# EAGLE library part EP3C25 (library Jim)
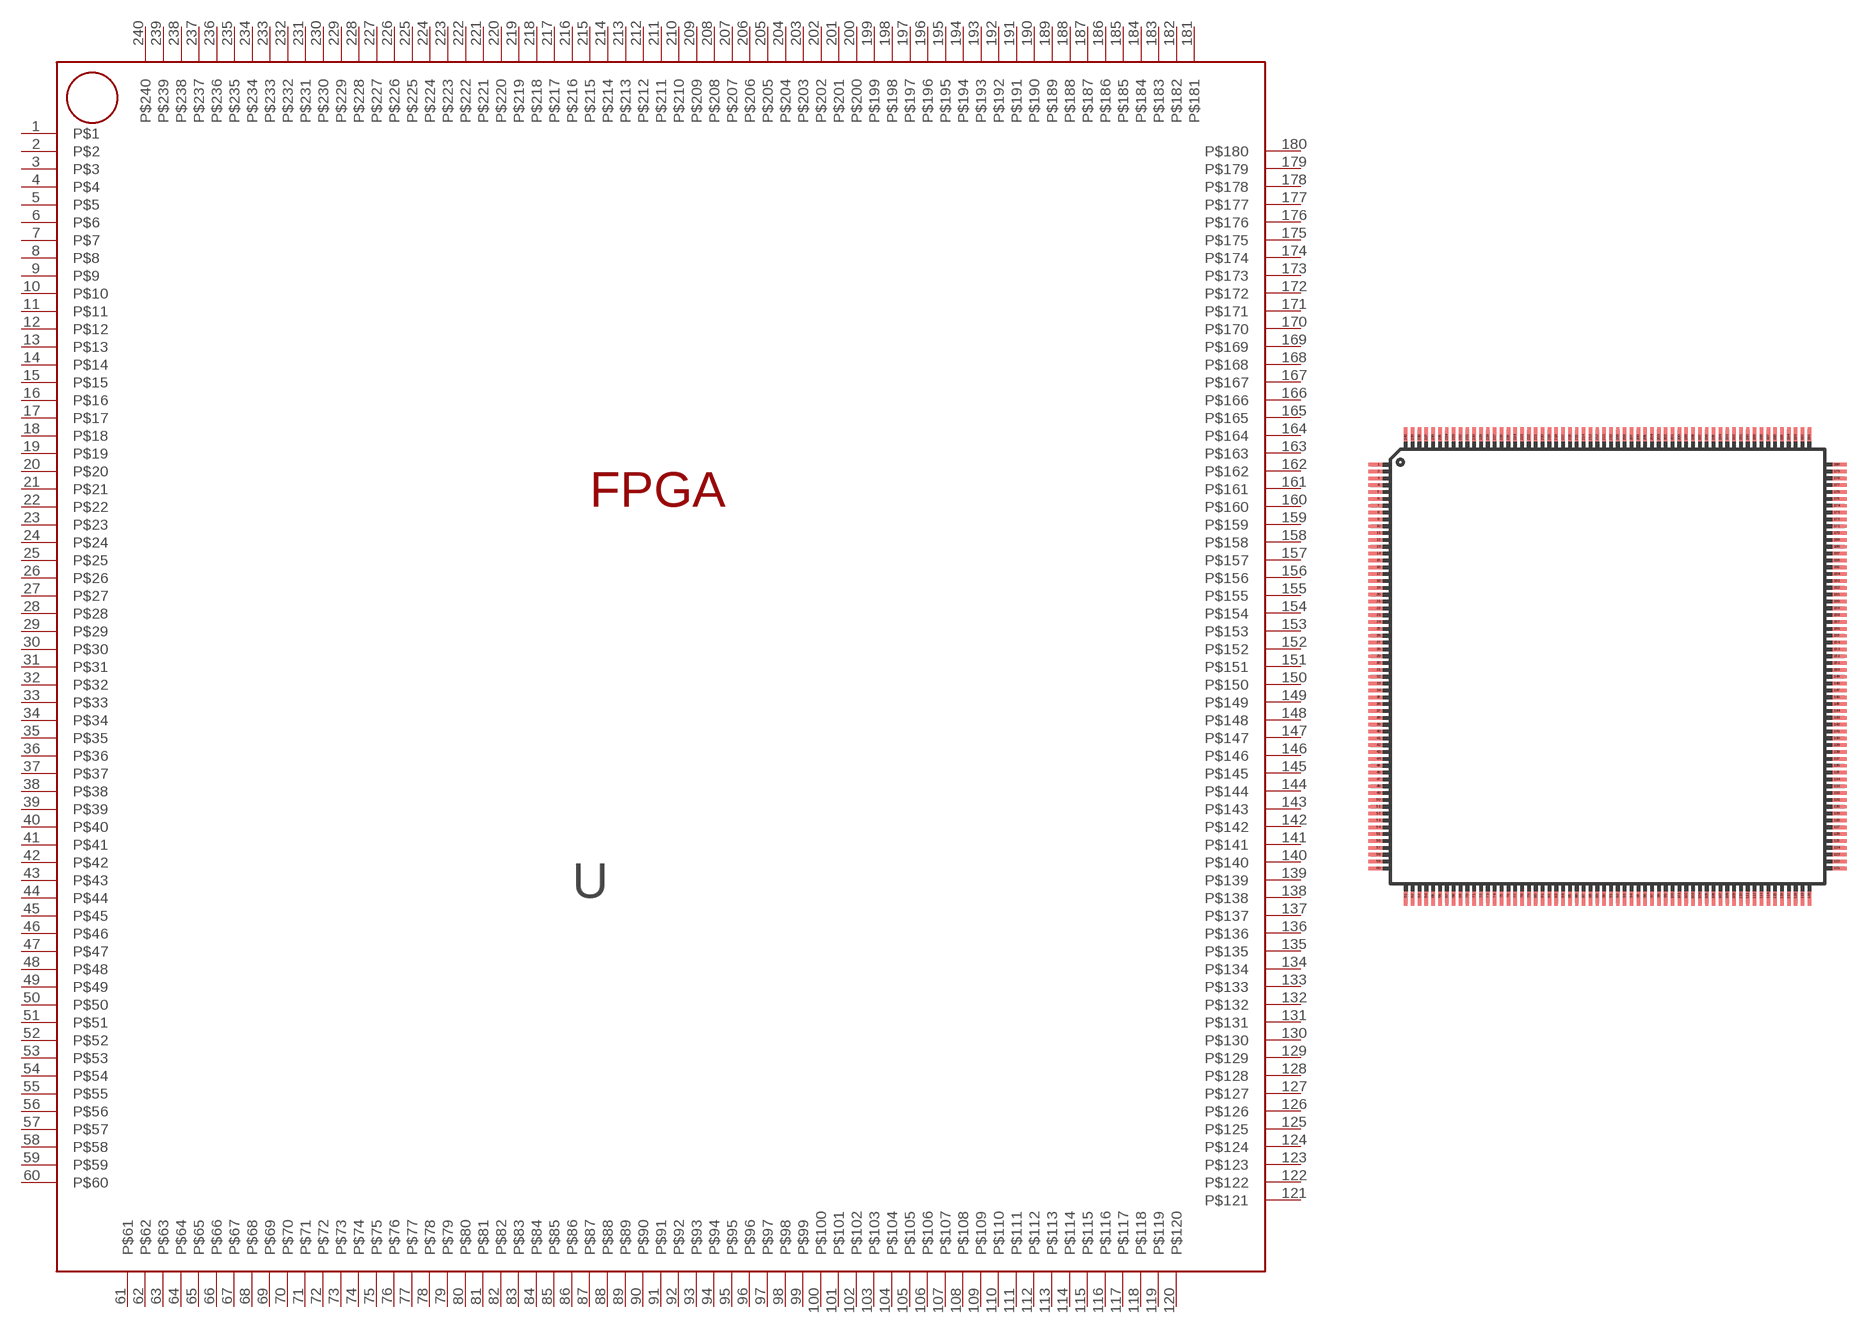
[diagram p30: symbol with the pads of PQFP240; footprint PQFP240]

Designator prefix -

## EP3C25  [PQFP240]
1  P$1
2  P$2
3  P$3
4  P$4
5  P$5
6  P$6
7  P$7
8  P$8
9  P$9
10  P$10
11  P$11
12  P$12
13  P$13
14  P$14
15  P$15
16  P$16
17  P$17
18  P$18
19  P$19
20  P$20
21  P$21
22  P$22
23  P$23
24  P$24
25  P$25
26  P$26
27  P$27
28  P$28
29  P$29
30  P$30
31  P$31
32  P$32
33  P$33
34  P$34
35  P$35
36  P$36
37  P$37
38  P$38
39  P$39
40  P$40
41  P$41
42  P$42
43  P$43
44  P$44
45  P$45
46  P$46
47  P$47
48  P$48
49  P$49
50  P$50
51  P$51
52  P$52
53  P$53
54  P$54
55  P$55
56  P$56
57  P$57
58  P$58
59  P$59
60  P$60
61  P$61
62  P$62
63  P$63
64  P$64
65  P$65
66  P$66
67  P$67
68  P$68
69  P$69
70  P$70
71  P$71
72  P$72
73  P$73
74  P$74
75  P$75
76  P$76
77  P$77
78  P$78
79  P$79
80  P$80
81  P$81
82  P$82
83  P$83
84  P$84
85  P$85
86  P$86
87  P$87
88  P$88
89  P$89
90  P$90
91  P$91
92  P$92
93  P$93
94  P$94
95  P$95
96  P$96
97  P$97
98  P$98
99  P$99
100  P$100
101  P$101
102  P$102
103  P$103
104  P$104
105  P$105
106  P$106
107  P$107
108  P$108
109  P$109
110  P$110
111  P$111
112  P$112
113  P$113
114  P$114
115  P$115
116  P$116
117  P$117
118  P$118
119  P$119
120  P$120
121  P$121
122  P$122
123  P$123
124  P$124
125  P$125
126  P$126
127  P$127
128  P$128
129  P$129
130  P$130
131  P$131
132  P$132
133  P$133
134  P$134
135  P$135
136  P$136
137  P$137
138  P$138
139  P$139
140  P$140
141  P$141
142  P$142
143  P$143
144  P$144
145  P$145
146  P$146
147  P$147
148  P$148
149  P$149
150  P$150
151  P$151
152  P$152
153  P$153
154  P$154
155  P$155
156  P$156
157  P$157
158  P$158
159  P$159
160  P$160
161  P$161
162  P$162
163  P$163
164  P$164
165  P$165
166  P$166
167  P$167
168  P$168
169  P$169
170  P$170
171  P$171
172  P$172
173  P$173
174  P$174
175  P$175
176  P$176
177  P$177
178  P$178
179  P$179
180  P$180
181  P$181
182  P$182
183  P$183
184  P$184
185  P$185
186  P$186
187  P$187
188  P$188
189  P$189
190  P$190
191  P$191
192  P$192
193  P$193
194  P$194
195  P$195
196  P$196
197  P$197
198  P$198
199  P$199
200  P$200
201  P$201
202  P$202
203  P$203
204  P$204
205  P$205
206  P$206
207  P$207
208  P$208
209  P$209
210  P$210
211  P$211
212  P$212
213  P$213
214  P$214
215  P$215
216  P$216
217  P$217
218  P$218
219  P$219
220  P$220
221  P$221
222  P$222
223  P$223
224  P$224
225  P$225
226  P$226
227  P$227
228  P$228
229  P$229
230  P$230
231  P$231
232  P$232
233  P$233
234  P$234
235  P$235
236  P$236
237  P$237
238  P$238
239  P$239
240  P$240

## Footprint PQFP240 (pad centres in mm)
PLASTIC QUAD FLAT PACK
smd 1.5 x 0.25: 1 -16.75,14.75; 2 -16.75,14.25; 3 -16.75,13.75; 4 -16.75,13.25; 5 -16.75,12.75; 6 -16.75,12.25; 7 -16.75,11.75; 8 -16.75,11.25; 9 -16.75,10.75; 10 -16.75,10.25; 11 -16.75,9.75; 12 -16.75,9.25; 13 -16.75,8.75; 14 -16.75,8.25; 15 -16.75,7.75; 16 -16.75,7.25; 17 -16.75,6.75; 18 -16.75,6.25; 19 -16.75,5.75; 20 -16.75,5.25; 21 -16.75,4.75; 22 -16.75,4.25; 23 -16.75,3.75; 24 -16.75,3.25; 25 -16.75,2.75; 26 -16.75,2.25; 27 -16.75,1.75; 28 -16.75,1.25; 29 -16.75,0.75; 30 -16.75,0.25; 31 -16.75,-0.25; 32 -16.75,-0.75; 33 -16.75,-1.25; 34 -16.75,-1.75; 35 -16.75,-2.25; 36 -16.75,-2.75; 37 -16.75,-3.25; 38 -16.75,-3.75; 39 -16.75,-4.25; 40 -16.75,-4.75; 41 -16.75,-5.25; 42 -16.75,-5.75; 43 -16.75,-6.25; 44 -16.75,-6.75; 45 -16.75,-7.25; 46 -16.75,-7.75; 47 -16.75,-8.25; 48 -16.75,-8.75; 49 -16.75,-9.25; 50 -16.75,-9.75; 51 -16.75,-10.25; 52 -16.75,-10.75; 53 -16.75,-11.25; 54 -16.75,-11.75; 55 -16.75,-12.25; 56 -16.75,-12.75; 57 -16.75,-13.25; 58 -16.75,-13.75; 59 -16.75,-14.25; 60 -16.75,-14.75; 121 16.75,-14.75; 122 16.75,-14.25; 123 16.75,-13.75; 124 16.75,-13.25; 125 16.75,-12.75; 126 16.75,-12.25; 127 16.75,-11.75; 128 16.75,-11.25; 129 16.75,-10.75; 130 16.75,-10.25; 131 16.75,-9.75; 132 16.75,-9.25; 133 16.75,-8.75; 134 16.75,-8.25; 135 16.75,-7.75; 136 16.75,-7.25; 137 16.75,-6.75; 138 16.75,-6.25; 139 16.75,-5.75; 140 16.75,-5.25; 141 16.75,-4.75; 142 16.75,-4.25; 143 16.75,-3.75; 144 16.75,-3.25; 145 16.75,-2.75; 146 16.75,-2.25; 147 16.75,-1.75; 148 16.75,-1.25; 149 16.75,-0.75; 150 16.75,-0.25; 151 16.75,0.25; 152 16.75,0.75; 153 16.75,1.25; 154 16.75,1.75; 155 16.75,2.25; 156 16.75,2.75; 157 16.75,3.25; 158 16.75,3.75; 159 16.75,4.25; 160 16.75,4.75; 161 16.75,5.25; 162 16.75,5.75; 163 16.75,6.25; 164 16.75,6.75; 165 16.75,7.25; 166 16.75,7.75; 167 16.75,8.25; 168 16.75,8.75; 169 16.75,9.25; 170 16.75,9.75; 171 16.75,10.25; 172 16.75,10.75; 173 16.75,11.25; 174 16.75,11.75; 175 16.75,12.25; 176 16.75,12.75; 177 16.75,13.25; 178 16.75,13.75; 179 16.75,14.25; 180 16.75,14.75
smd 0.25 x 1.5: 61 -14.75,-16.75; 62 -14.25,-16.75; 63 -13.75,-16.75; 64 -13.25,-16.75; 65 -12.75,-16.75; 66 -12.25,-16.75; 67 -11.75,-16.75; 68 -11.25,-16.75; 69 -10.75,-16.75; 70 -10.25,-16.75; 71 -9.75,-16.75; 72 -9.25,-16.75; 73 -8.75,-16.75; 74 -8.25,-16.75; 75 -7.75,-16.75; 76 -7.25,-16.75; 77 -6.75,-16.75; 78 -6.25,-16.75; 79 -5.75,-16.75; 80 -5.25,-16.75; 81 -4.75,-16.75; 82 -4.25,-16.75; 83 -3.75,-16.75; 84 -3.25,-16.75; 85 -2.75,-16.75; 86 -2.25,-16.75; 87 -1.75,-16.75; 88 -1.25,-16.75; 89 -0.75,-16.75; 90 -0.25,-16.75; 91 0.25,-16.75; 92 0.75,-16.75; 93 1.25,-16.75; 94 1.75,-16.75; 95 2.25,-16.75; 96 2.75,-16.75; 97 3.25,-16.75; 98 3.75,-16.75; 99 4.25,-16.75; 100 4.75,-16.75; 101 5.25,-16.75; 102 5.75,-16.75; 103 6.25,-16.75; 104 6.75,-16.75; 105 7.25,-16.75; 106 7.75,-16.75; 107 8.25,-16.75; 108 8.75,-16.75; 109 9.25,-16.75; 110 9.75,-16.75; 111 10.25,-16.75; 112 10.75,-16.75; 113 11.25,-16.75; 114 11.75,-16.75; 115 12.25,-16.75; 116 12.75,-16.75; 117 13.25,-16.75; 118 13.75,-16.75; 119 14.25,-16.75; 120 14.75,-16.75; 181 14.75,16.75; 182 14.25,16.75; 183 13.75,16.75; 184 13.25,16.75; 185 12.75,16.75; 186 12.25,16.75; 187 11.75,16.75; 188 11.25,16.75; 189 10.75,16.75; 190 10.25,16.75; 191 9.75,16.75; 192 9.25,16.75; 193 8.75,16.75; 194 8.25,16.75; 195 7.75,16.75; 196 7.25,16.75; 197 6.75,16.75; 198 6.25,16.75; 199 5.75,16.75; 200 5.25,16.75; 201 4.75,16.75; 202 4.25,16.75; 203 3.75,16.75; 204 3.25,16.75; 205 2.75,16.75; 206 2.25,16.75; 207 1.75,16.75; 208 1.25,16.75; 209 0.75,16.75; 210 0.25,16.75; 211 -0.25,16.75; 212 -0.75,16.75; 213 -1.25,16.75; 214 -1.75,16.75; 215 -2.25,16.75; 216 -2.75,16.75; 217 -3.25,16.75; 218 -3.75,16.75; 219 -4.25,16.75; 220 -4.75,16.75; 221 -5.25,16.75; 222 -5.75,16.75; 223 -6.25,16.75; 224 -6.75,16.75; 225 -7.25,16.75; 226 -7.75,16.75; 227 -8.25,16.75; 228 -8.75,16.75; 229 -9.25,16.75; 230 -9.75,16.75; 231 -10.25,16.75; 232 -10.75,16.75; 233 -11.25,16.75; 234 -11.75,16.75; 235 -12.25,16.75; 236 -12.75,16.75; 237 -13.25,16.75; 238 -13.75,16.75; 239 -14.25,16.75; 240 -14.75,16.75